# EAGLE library part IRFTS9342 (library lib_stankus)
IRFTS9342 P-MOS Farnell #2114660
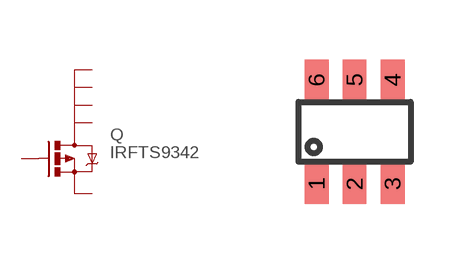
[diagram p70: symbol with the pads of TSOP6; footprint TSOP6]

Designator prefix Q

## IRFTS9342  [TSOP6]
1  D1  pas
2  D2  pas
3  G  pas
4  S  pas
5  D3  pas
6  D4  pas

## Footprint TSOP6 (pad centres in mm)
TSOP6
smd 0.6 x 1: 1 -0.95,-1.3; 2 0,-1.3; 3 0.95,-1.3; 4 0.95,1.3; 5 0,1.3; 6 -0.95,1.3